# Altium schematic symbol library KP-3216SRC-PRVYEL.SchLib: 1 symbol
Pins are listed as number, name and electrical type; pins without a type are passive.

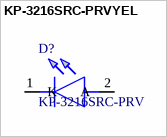
[diagram p0: symbol KP-3216SRC-PRVYEL]

## KP-3216SRC-PRVYEL
designator D?, comment KP-3216SRC-PRV
YEL 1206 clear chip-LED; Manufacturer_Name: Kingbright; Geometry.Height: 1.2mm; Manufacturer_Part_Number: KP-3216SRC-PRV; RS Part Number: 4663914P; RS Price/Stock: http://uk.rs-online.com/web/p/products/4663914P; Arrow Part Number: KP-3216SRC-PRV; Arrow Price/Stock: http://uk.rs-online.com/web/p/products/4663914P; Datasheet Link: http://uk.rs-online.com/web/p/products/4663914
footprint LEDC3216X120NYEL
pins: 1 K, 2 A